# Altium footprint library Connectors.PcbLib: 67 footprints (part 5 of 5)
Each footprint in its own frame and in the unit in brackets; x right, y up, seen from the top. Pads: shape width x height; smd on the part's side, far side on the other; paste and mask are expansions set on the pad; w line width, h text height; cw(c..) or ccw(c..) is an arc to the next point about the centre after c.
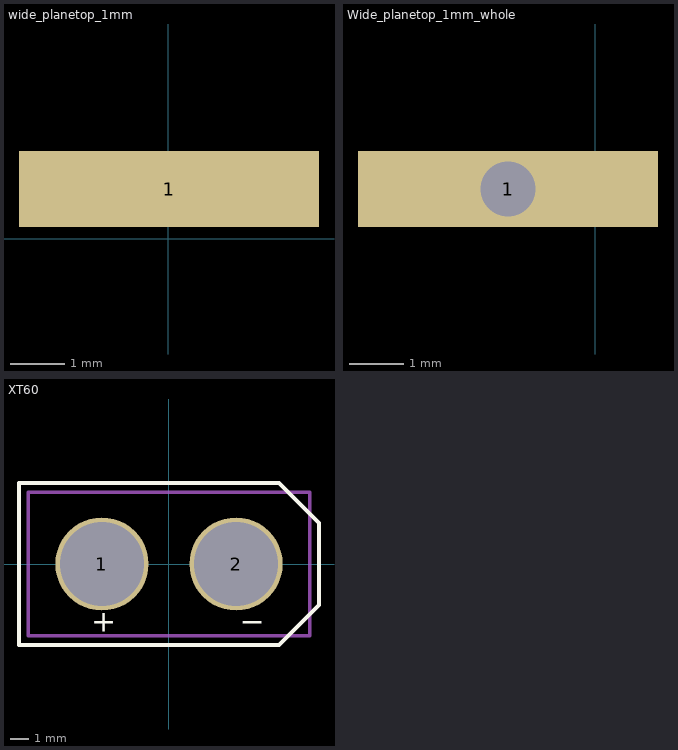
[diagram p4: the footprints below, top view; thin cyan lines are the x and y axes]

## wide_planetop_1mm [mm]
pads (1):
  rect 5.5x1.4 / inner rect 0x0 / far side rect 0x0 all layers, no hole: 1(0.01,0.91)

## Wide_planetop_1mm_whole [mm]
pads (1):
  rect 5.5x1.4 / inner round 0 / far side round 1.2 hole 1: 1(-1.6,8.4)

## XT60 [mm]
pads (2):
  round 5 hole 4.5 mask+0.102: 1(-3.6,0) 2(3.6,0)
Top Overlay:
  lines w0.2: 5.893,-4.35 -8.05,-4.35 -8.05,4.35 5.9,4.35 8.05,2.2 ; 5.9,-4.35 8.05,-2.2 ; 8.05,-2.196 8.05,2.173
  text "+             −" at -4.171,-4.029 h2
Mechanical 15:
  lines w0.2: -7.55,-3.85 7.55,-3.85 7.55,3.85 -7.55,3.85 -7.55,-3.85